# EAGLE library part 43256GU (library memory-nec)
MEMORY
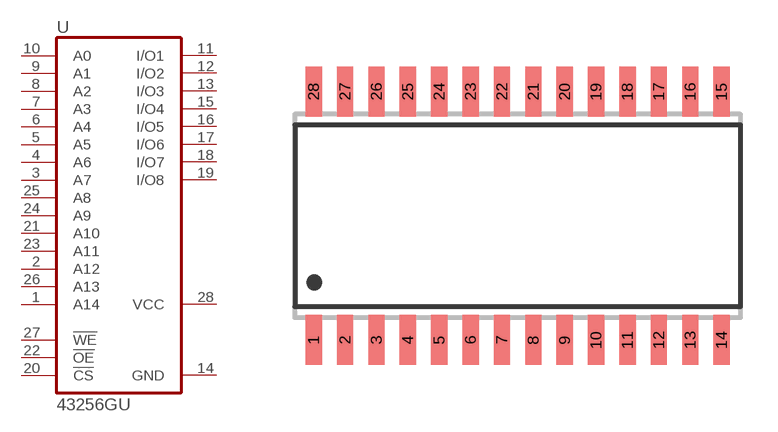
[diagram p17: symbol with the pads of SO28L; footprint SO28L]

Designator prefix U

## 43256GU  [SO28L]
1  A14  in
2  A12  in
3  A7  in
4  A6  in
5  A5  in
6  A4  in
7  A3  in
8  A2  in
9  A1  in
10  A0  in
11  I/O1
12  I/O2
13  I/O3
14  GND  pwr
15  I/O4
16  I/O5
17  I/O6
18  I/O7
19  I/O8
20  !CS!  in
21  A10  in
22  !OE!  in
23  A11  in
24  A9  in
25  A8  in
26  A13  in
27  !WE!  in
28  VCC  pwr

## Footprint SO28L (pad centres in mm)
Small Outline Package 28L SOIC (300 MIL BODY) - JEDEC#: MS-013
smd 0.66 x 2.032: 1 -8.255,-5.029; 2 -6.985,-5.029; 3 -5.715,-5.029; 4 -4.445,-5.029; 5 -3.175,-5.029; 6 -1.905,-5.029; 7 -0.635,-5.029; 8 0.635,-5.029; 9 1.905,-5.029; 10 3.175,-5.029; 11 4.445,-5.029; 12 5.715,-5.029; 13 6.985,-5.029; 14 8.255,-5.029; 15 8.255,5.029; 16 6.985,5.029; 17 5.715,5.029; 18 4.445,5.029; 19 3.175,5.029; 20 1.905,5.029; 21 0.635,5.029; 22 -0.635,5.029; 23 -1.905,5.029; 24 -3.175,5.029; 25 -4.445,5.029; 26 -5.715,5.029; 27 -6.985,5.029; 28 -8.255,5.029